# EAGLE library part OG-DAC_DAC855X (library braids_v50)
16-bit low-glitch DAC with 2's complement (8550) or unsigned code (8551)
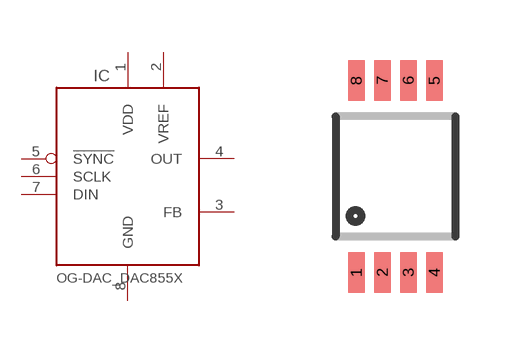
[diagram p5: symbol with the pads of OG-DAC_MSOP-8; footprint OG-DAC_MSOP-8]

Designator prefix IC

## OG-DAC_DAC855X  [OG-DAC_MSOP-8]
1  VDD  sup
2  VREF  sup
3  FB  in
4  OUT  out
5  !SYNC
6  SCLK
7  DIN
8  GND  sup

## Footprint OG-DAC_MSOP-8 (pad centres in mm)
smd 0.41 x 1.02: 1 -0.975,-2.4; 2 -0.325,-2.4; 3 0.325,-2.4; 4 0.975,-2.4; 5 0.975,2.4; 6 0.325,2.4; 7 -0.325,2.4; 8 -0.975,2.4